# Altium footprint library IN-12.PcbLib: 1 footprints
Each footprint in its own frame and in the unit in brackets; x right, y up, seen from the top. Pads: shape width x height; smd on the part's side, far side on the other; paste and mask are expansions set on the pad; w line width, h text height; cw(c..) or ccw(c..) is an arc to the next point about the centre after c.
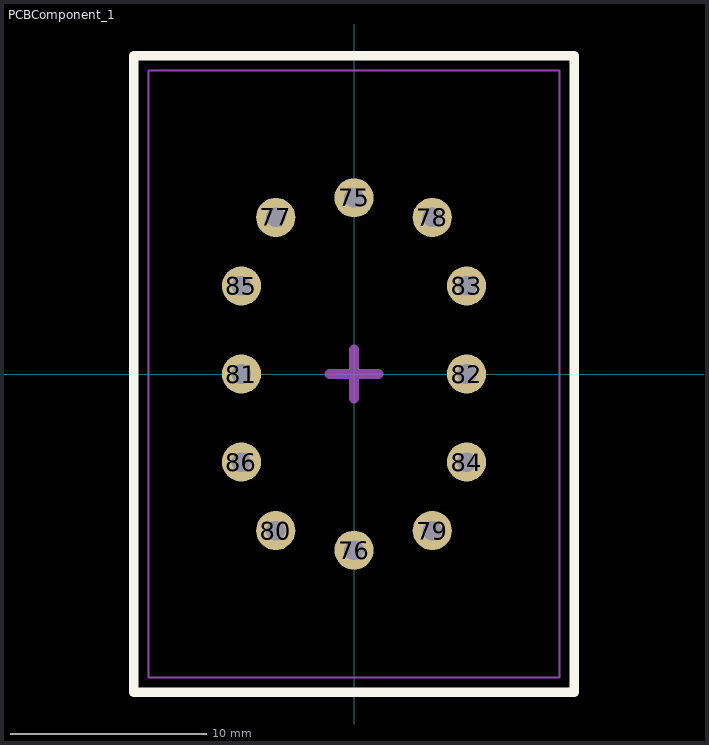
[diagram p0: the footprint, top view; thin cyan lines are the x and y axes]

## PCBComponent_1 [mm]
pads (12):
  round 2 hole 1: 75(0,9) 76(0,-9) 77(-4,8) 78(4,8) 79(4,-8) 80(-4,-8) 82(5.75,0) 83(5.75,4.5) 84(5.75,-4.5) 85(-5.75,4.5) 86(-5.75,-4.5)
  round 2 hole 1 mask+0.102: 81(-5.75,0)
Top Overlay:
  lines w0.5: -11.25,-16.25 -11.25,16.25 11.25,16.25 11.25,-16.25 -10.75,-16.25 -11.25,-16.25
Top Assy:
  lines w0.1: -10.5,-15.5 10.5,-15.5 10.5,15.5 -10.5,15.5 -10.5,-15.5
Border:
  lines w0.1: -11.25,-16.25 11.25,-16.25 11.25,16.25 -11.25,16.25 -11.25,-16.25
  lines w0.5: -1.25,0 1.25,0 ; 0,-1.25 0,1.25
3D body "IN-12.step": height 28, standoff -7, extent -10.5,-15.5 10.5,15.5